# Altium schematic symbol library 7_SEG_Series_SCH_Library_ARAF.SchLib: 1 symbol
Pins are listed as number, name and electrical type; pins without a type are passive.

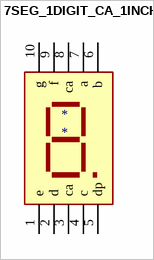
[diagram p0: symbol 7SEG_1DIGIT_CA_1INCH]

## 7SEG_1DIGIT_CA_1INCH
designator *
footprint 7SEG_1DIGIT_CA_1INCH
pins: 1 e, 2 d, 3 ca (power), 4 c, 5 dp, 6 b, 7 a, 8 ca (power), 9 f, 10 g